# Altium footprint library pcblib.PcbLib: 4 footprints
Each footprint in its own frame and in the unit in brackets; x right, y up, seen from the top. Pads: shape width x height; smd on the part's side, far side on the other; paste and mask are expansions set on the pad; w line width, h text height; cw(c..) or ccw(c..) is an arc to the next point about the centre after c.
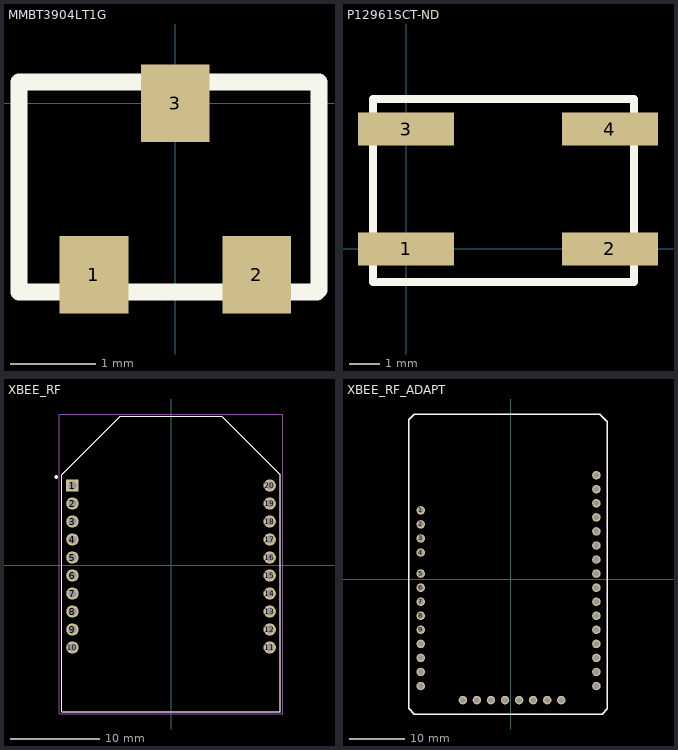
[diagram p0: the footprints below, top view; thin cyan lines are the x and y axes]

## MMBT3904LT1G [mm] "BJT"
pads (3):
  rect 0.8x0.9 smd: 1(-0.95,-2) 2(0.95,-2) 3(0,0)
Top Overlay:
  lines w0.2: -1.825,-2.2 -1.825,0.25 1.675,0.25 1.675,-2.175 1.65,-2.2 -1.825,-2.2

## P12961SCT-ND [mm]
pads (4):
  rect 3.2x1.1 smd: 1(0,0) 2(6.8,0) 3(0,4) 4(6.8,4)
Top Overlay:
  lines w0.254: -1.1,-1.1 -1.1,5 -0.9,5 7.6,5 7.6,-1.1 -1.1,-1.1

## XBEE_RF [mil]
pads (20):
  rect 54.25x54.25 hole 34.25: 1(-433,349.5)
  round 54.25 hole 34.25: 2(-433,270.5) 3(-433,191.5) 4(-433,112.5) 5(-433,33.5) 6(-433,-45.5) 7(-433,-124.5) 8(-433,-203.5) 9(-433,-282.5) 10(-433,-361.5) 11(433,-361.5) 12(433,-282.5) 13(433,-203.5) 14(433,-124.5) 15(433,-45.5) 16(433,33.5) 17(433,112.5) 18(433,191.5) 19(433,270.5) 20(433,349.5)
Top Overlay:
  circle w7.87: c-503.94,386.89 r3.94
  lines w5: -480,-643.5 -480,396.5 -222.83,653.5 222.83,653.5 480,396.5 480,-643.5 -480,-643.5
Mechanical 4:
  circle w7.87: c-503.94,386.89 r3.94
  circle w7.87: c-503.94,386.89 r3.94
  lines w5: -480,-643.5 -480,396.5 ; -480,-643.5 480,-643.5 ; -480,-643.5 -480,396.5 ; -480,-643.5 480,-643.5 ; -480,396.5 -222.83,653.5 ; -480,396.5 -222.83,653.5 ; -222.83,653.5 222.83,653.5 ; -222.83,653.5 222.83,653.5 ; 222.83,653.5 480,396.5 ; 222.83,653.5 480,396.5 ; 480,-643.5 480,396.5 ; 480,-643.5 480,396.5
Mechanical 16:
  lines w1.97: -489.84,-653.34 489.84,-653.34 489.84,663.34 -489.84,663.34 -489.84,-653.34

## XBEE_RF_ADAPT [mm]
pads (37):
  round 1.53 / inner round 1.524 / far side round 1.53 hole 1.02: 1(-16.279,12.482) 2(-16.279,9.942) 3(-16.279,7.402) 4(-16.279,4.862) 5(-16.279,1.052) 6(-16.279,-1.488) 7(-16.279,-4.028) 8(-16.279,-6.568) 9(-16.279,-9.108) 10(-16.279,-11.648) 11(-16.279,-14.188) 12(-16.279,-16.728) 13(-16.279,-19.268) 14(-8.659,-21.808) 15(-6.119,-21.808) 16(-3.579,-21.808) 17(-1.039,-21.808) 18(1.501,-21.808) 19(4.041,-21.808) 20(6.581,-21.808) 21(9.121,-21.808) 22(15.471,-19.268) 23(15.471,-16.728) 24(15.471,-14.188) 25(15.471,-11.648) 26(15.471,-9.108) 27(15.471,-6.568) 28(15.471,-4.028) 29(15.471,-1.488) 30(15.471,1.052) 31(15.471,3.592) 32(15.471,6.132) 33(15.471,8.672) 34(15.471,11.212) 35(15.471,13.752) 36(15.471,16.292) 37(15.471,18.832)
Top Overlay:
  lines w0.254: -18.475,-23.275 -17.425,-24.325 16.525,-24.325 17.475,-23.375 17.475,28.475 16.05,29.9 -17.45,29.9 -18.475,28.875 -18.475,25.075 -18.475,-23.275